# Altium footprint library LT-CHARGE+.PcbLib: 18 footprints (part 2 of 2)
Each footprint in its own frame and in the unit in brackets; x right, y up, seen from the top. Pads: shape width x height; smd on the part's side, far side on the other; paste and mask are expansions set on the pad; w line width, h text height; cw(c..) or ccw(c..) is an arc to the next point about the centre after c.
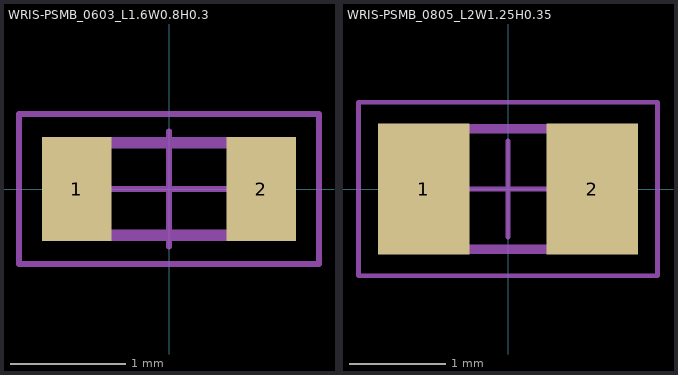
[diagram p1: the footprints below, top view; thin cyan lines are the x and y axes]

## WRIS-PSMB_0603_L1.6W0.8H0.3 [mm] "Metal Plate Resistor, SMT, body size 1.6x0.8mm"
height 0.3
pads (2):
  rect 0.6x0.9 smd: 1(-0.8,0) 2(0.8,0)
Top Courtyard:
  lines w0.05: -0.5,0 0.5,0 ; 0,-0.5 0,0.5 ; -1.3,-0.65 -1.3,0.65 1.3,0.65 1.3,-0.65 -1.3,-0.65
Top Designator:
  text ".Designator" at -2.499,-0.167 h0.5
Top Component Outline:
  lines w0.1: -0.8,-0.4 0.8,-0.4 0.8,0.4 -0.8,0.4 -0.8,-0.4
3D body "WRIS-PSMB_0603.stp": height 0.3, standoff 0, extent -0.8,-0.4 0.8,0.4

## WRIS-PSMB_0805_L2W1.25H0.35 [mm] "Metal Plate Resistor, SMT, body size 2x1.25mm"
height 0.35
pads (2):
  rect 0.95x1.36 smd: 1(-0.875,0) 2(0.875,0)
Top Courtyard:
  lines w0.05: -0.5,0 0.5,0 ; 0,-0.5 0,0.5 ; -1.55,-0.9 1.55,-0.9 1.55,0.9 -1.55,0.9 -1.55,-0.9
Top Designator:
  text ".Designator" at -2.499,-0.167 h0.5
Top Component Outline:
  lines w0.1: -1,-0.625 1,-0.625 1,0.625 -1,0.625 -1,-0.625
3D body "WRIS-PSMB_0805.stp": height 0.35, standoff 0, extent -1,-0.625 1,0.625